# Altium footprint library PFC_Interleaved_V8.1.PcbLib: 67 footprints (part 2 of 5)
Each footprint in its own frame and in the unit in brackets; x right, y up, seen from the top. Pads: shape width x height; smd on the part's side, far side on the other; paste and mask are expansions set on the pad; w line width, h text height; cw(c..) or ccw(c..) is an arc to the next point about the centre after c.
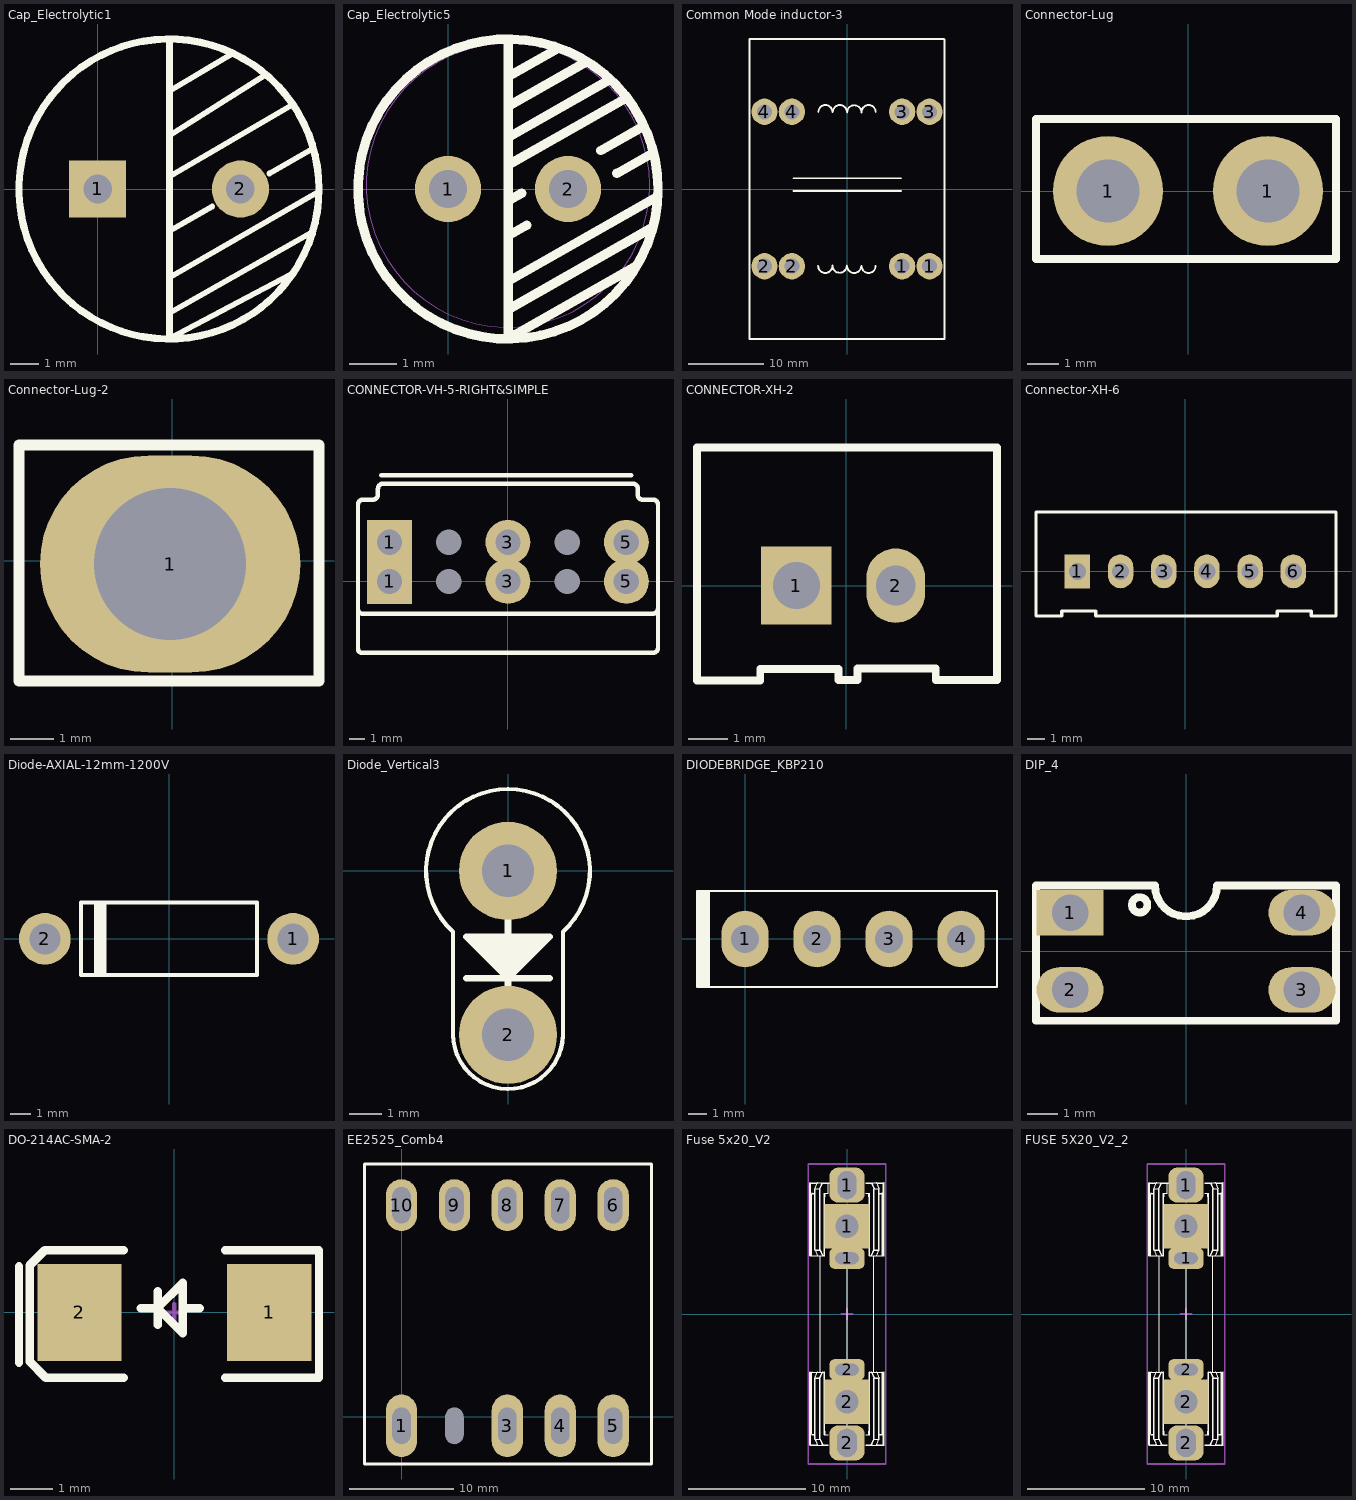
[diagram p1: the footprints below, top view; thin cyan lines are the x and y axes]

## Cap_Electrolytic1 [mm]
pads (2):
  rect 2x2 hole 1: 1(0,0)
  round 2 hole 1: 2(5,0)
Top Overlay:
  circle w0.254: c2.5,0 r5.25
  lines w0.2: 2.515,-5.232 6.756,-2.997 ; 2.515,-4.343 7.493,-1.524 ; 2.515,-3.099 7.722,-0.102 ; 2.515,-1.473 4.014,-0.61 ; 2.515,0.432 6.807,2.946 ; 2.515,1.88 5.867,3.988 ; 2.515,3.429 4.699,4.724 ; 6.012,0.54 7.544,1.422
  lines w0.254: 2.515,-5.232 2.515,5.156
Mechanical 1:
  circle w0.02: c2.5,0 r5.25
3D body: height 18, standoff 0, extent -2.634,-5.08 7.366,4.92
3D body: height 18.1, standoff 17.6, extent -1.775,-3.937 6.223,4.059
3D body: height 17, standoff 0, extent 7.227,-1.045 7.505,0.885

## Cap_Electrolytic5 [mm]
pads (2):
  round 1.4 hole 0.8: 1(0,0) 2(2.54,0)
Top Overlay:
  circle w0.2: c1.269,0 r3.175
  lines w0.2: 1.27,-3.152 1.27,3.127 ; 1.281,0.513 3.754,1.914 ; 1.285,2.384 2.327,2.975 ; 1.285,-1.945 4.435,-0.161 ; 1.287,1.101 3.422,2.311 ; 1.288,1.763 2.931,2.695 ; 1.289,-0.245 1.559,-0.092 ; 1.298,-2.533 4.3,-0.832 ; 1.298,-0.975 1.671,-0.764 ; 1.404,-3.09 3.955,-1.644 ; 3.234,0.815 4.14,1.328 ; 3.574,0.329 4.315,0.749
Mechanical 1:
  circle w0.02: c1.27,0.076 r3
3D body: height 11.5, standoff 0, extent 4.053,-0.842 4.331,1.089
3D body: height 12.1, standoff 11.6, extent -0.729,-1.924 3.269,2.074
3D body: height 12, standoff 0, extent -1.805,-2.873 4.192,3.121

## Common Mode inductor-3 [mm]
pads (8):
  round 3.5 hole 2: 1(7.35,-10.3) 1(11,-10.3) 2(-11,-10.3) 2(-7.35,-10.3) 3(7.35,10.3) 3(11,10.3) 4(-11,10.3) 4(-7.35,10.3)
Top Overlay:
  lines w0.254: -13,-20 13,-20 13,19.929 12.929,20 -13,20 -13,-19.99 ; -7.128,-0.267 7.223,-0.267 ; -7.128,1.435 7.223,1.435 ; -3.841,-10.249 ccw(c-2.891,-10.241) -1.941,-10.249 ; -3.831,10.248 cw(c-2.881,10.241) -1.931,10.249 ; -1.936,-10.224 ccw(c-0.986,-10.216) -0.036,-10.224 ; -1.901,10.248 cw(c-0.951,10.241) -0.001,10.249 ; -0.006,-10.249 ccw(c0.944,-10.241) 1.894,-10.249 ; 0.03,10.223 cw(c0.98,10.215) 1.93,10.223 ; 1.924,-10.249 ccw(c2.874,-10.241) 3.824,-10.249 ; 1.935,10.248 cw(c2.885,10.241) 3.835,10.249
3D body: height 40, standoff 0, extent -5.486,-19.939 5.766,19.964
3D body: height 35.99, standoff 14.01, extent -10.719,-13.848 11.281,14.152
3D body: height 1, standoff 0, extent -12.852,-19.939 13.208,19.876
3D body: height 37, standoff 13, extent -11.591,-13.568 12.396,-12.568
3D body: height 37, standoff 13, extent -11.591,-12.286 12.396,-11.286
3D body: height 37, standoff 13, extent -11.591,-11.003 12.396,-10.003
3D body: height 37, standoff 13, extent -11.591,-9.72 12.396,-8.72
3D body: height 37, standoff 13, extent -11.591,-8.437 12.396,-7.437
3D body: height 37, standoff 13, extent -11.616,-1.427 12.371,-0.427
3D body: height 37, standoff 13, extent -11.616,-2.71 12.371,-1.71
3D body: height 37, standoff 13, extent -11.616,-3.992 12.371,-2.992
3D body: height 37, standoff 13, extent -11.616,-5.275 12.371,-4.275
3D body: height 37, standoff 13, extent -11.616,-6.558 12.371,-5.558
3D body: height 37, standoff 13, extent -11.667,5.634 12.32,6.634
3D body: height 37, standoff 13, extent -11.667,4.351 12.32,5.351
3D body: height 37, standoff 13, extent -11.667,3.069 12.32,4.069
3D body: height 37, standoff 13, extent -11.667,1.786 12.32,2.786
3D body: height 37, standoff 13, extent -11.667,0.503 12.32,1.503
3D body: height 37, standoff 13, extent -11.667,12.492 12.32,13.492
3D body: height 37, standoff 13, extent -11.667,11.209 12.32,12.209
3D body: height 37, standoff 13, extent -11.667,9.927 12.32,10.927
3D body: height 37, standoff 13, extent -11.667,8.644 12.32,9.644
3D body: height 37, standoff 13, extent -11.667,7.361 12.32,8.361

## Connector-Lug [mm]
pads (2):
  round 3.5 hole 2: 1(-2.54,0) 1(2.54,0)
Top Overlay:
  lines w0.254: -4.826,-2.159 4.699,-2.159 4.699,2.286 -4.826,2.286 -4.826,-2.159
3D body "User Library-PCR250.STEP": height 13.1, standoff -3, extent -5.699,-1.475 5.801,1.525

## Connector-Lug-2 [mm]
pads (1):
  oval 6x5 hole 3.5: 1(-0.051,-0.076)
Top Overlay:
  lines w0.254: -3.531,-2.769 -3.531,2.667 3.378,2.667 3.378,-2.769 -3.531,-2.769

## CONNECTOR-VH-5-RIGHT&SIMPLE [mm]
pads (10):
  rect 3x3 hole 1.7: 1(-7.92,0) 1(-7.92,2.625)
  round 0 hole 1.7: 2(-3.96,0) 2(-3.96,2.625) 4(3.96,0) 4(3.96,2.625)
  round 3 hole 1.7: 3(0,0) 3(0,2.625) 5(7.92,0) 5(7.92,2.625)
Top Overlay:
  lines w0.3: -10.028,2.515 -10.028,-4.496 ccw(c-9.749,-4.496) -9.749,-4.775 -5.939,-4.775 9.688,-4.775 ccw(c9.688,-4.432) 10.031,-4.432 10.031,2.515 ; -8.458,7.112 8.235,7.112 ; 9.7,5.47 cw(c9.7,5.14) 10.031,5.14 10.031,-1.807 cw(c9.688,-1.807) 9.688,-2.15 -5.939,-2.15 -9.749,-2.15 cw(c-9.749,-1.871) -10.028,-1.871 -10.028,5.14 cw(c-9.698,5.14) -9.698,5.47 -9.038,5.47 ccw(c-9.038,5.813) -8.695,5.813 -8.695,6.194 cw(c-8.352,6.194) -8.352,6.537 8.341,6.537 cw(c8.341,6.194) 8.684,6.194 8.684,5.775 ccw(c8.989,5.775) 8.989,5.47 9.738,5.47
3D body "User Library-B2PS-VH.STEP": height 9.25, standoff -3.15, extent -1.95,-0.735 5.91,14.735
3D body "User Library-B2PS-VH.STEP": height 9.25, standoff -3.15, extent 2.01,-0.735 9.87,14.735
3D body "User Library-B2PS-VH.STEP": height 9.25, standoff -3.15, extent -5.91,-0.735 1.95,14.735
3D body "User Library-B2PS-VH.STEP": height 9.25, standoff -3.15, extent -9.87,-0.735 -2.01,14.735

## CONNECTOR-XH-2 [mm]
pads (2):
  rect 1.8x2 hole 1.2: 1(-1.27,0)
  oval 1.5x1.905 hole 1.016: 2(1.27,0)
Top Overlay:
  lines w0.2: -2.194,-2.426 -3.81,-2.426 -3.81,3.531 3.861,3.531 3.861,-2.413 2.295,-2.413 ; -2.194,-2.426 -2.194,-2.133 ; -2.194,-2.426 -2.194,-2.133 ; -2.194,-2.133 -1.194,-2.133 ; -2.194,-2.133 -1.194,-2.133 ; -1.194,-2.133 -0.194,-2.133 -0.194,-2.413 0.295,-2.413 0.295,-2.121 1.295,-2.121 ; 1.295,-2.121 2.295,-2.121 ; 1.295,-2.121 2.295,-2.121 ; 2.295,-2.413 2.295,-2.121 ; 2.295,-2.413 2.295,-2.121
3D body "JST 2pin.stp": height 6.85, standoff -3.45, extent -3.689,-2.311 3.74,3.416

## Connector-XH-6 [mm]
pads (6):
  rect 1.5x2 hole 1: 1(-6.35,0)
  oval 1.5x2 hole 1: 2(-3.81,0) 3(-1.27,0) 4(1.27,0) 5(3.81,0) 6(6.35,0)
Top Overlay:
  lines w0.2: -8.788,-2.616 -8.788,0.419 -8.788,3.492 8.865,3.492 8.865,-2.616 ; -8.712,-2.629 -7.274,-2.629 ; 5.417,-2.629 -5.274,-2.629 -5.274,-2.336 -6.274,-2.336 ; 5.417,-2.613 5.417,-2.337 6.417,-2.337 7.417,-2.337 7.417,-2.629 ; 7.439,-2.629 8.839,-2.629 ; -7.274,-2.629 -7.274,-2.336 ; -7.274,-2.629 -7.274,-2.336 ; -7.274,-2.336 -6.274,-2.336 ; -7.274,-2.336 -6.274,-2.336
3D body "User Library-JST - XH - Thru (V) - 6Pin - 2_54mm.STEP": height 7.21, standoff -3, extent -8.661,-2.489 8.712,3.353

## Diode-AXIAL-12mm-1200V [mm]
pads (2):
  round 2.5 hole 1.5: 1(6,0) 2(-6,0)
Top Overlay:
  rectangle: -3.632,-1.803 -3.012,1.784
  lines w0.2: -4.25,-1.75 -4.25,1.75 4.25,1.75 4.25,-1.75 -4.25,-1.75
3D body: height 3.65, standoff 0.15, extent -4.216,-1.754 4.284,1.746
3D body: height 3.68, standoff 0.12, extent -3.45,-1.783 -2.95,1.777
3D body: height 2.4, standoff 1.4, extent -6.452,-0.502 6.448,0.498
3D body: height 1.4, standoff 0, extent -6.5,-0.5 -5.5,0.5
3D body: height 1.4, standoff 0, extent 5.5,-0.5 6.5,0.5

## Diode_Vertical3 [mm]
pads (2):
  round 3 hole 1.6: 1(0,0) 2(0,-5)
Top Overlay:
  rectangle: -0.508,-2.769 0.508,-2.007
  rectangle: 0.508,-2.248 1.028,-2.007
  rectangle: 0.508,-2.376 0.901,-2.248
  rectangle: 0.508,-2.5 0.776,-2.376
  rectangle: -0.842,-2.5 0.508,-2.434
  rectangle: -0.856,-2.421 -0.254,-2.007
  rectangle: -1.052,-2.261 -0.842,-2.007
  rectangle: -0.635,-2.769 -0.508,-2.261
  rectangle: -0.381,-2.904 0.372,-2.642
  rectangle: -0.123,-3.019 0.258,-2.892
  rectangle: -0.381,-3.023 -0.127,-2.642
  rectangle: -0.127,-3.277 0.102,-2.896
  rectangle: 0.508,-2.633 0.643,-2.376
  rectangle: -0.842,-2.434 -0.635,-2.261
  rectangle: -0.98,-2.413 -0.842,-2.261
  rectangle: -0.108,-3.15 0.102,-2.896
  lines w0.127: -1.676,-5.08 -1.676,-1.88 ; -1.675,-4.978 ccw(c0,-4.978) 1.675,-5.017 ; -1.675,-1.856 cw(c0,0) 1.677,-1.854 1.676,-5.08 ; 0.102,-3.15 0.102,-2.896
  lines w0.2: -1.27,-3.277 1.27,-3.277 ; 0,-3.734 0,-3.277 ; 0,-1.346 0,-2.007 -0.762,-2.007 -1.27,-2.007 ; -1.27,-2.007 0,-3.277 ; -1.27,-2.007 1.27,-2.007 0,-3.277
3D body: height 10, standoff 0, extent -0.496,-5.499 0.5,-4.501
3D body: height 5.5, standoff 0.5, extent -2.497,-2.499 2.498,2.5
3D body: height 10.5, standoff 9.5, extent -0.381,-5.54 0.619,0.46
3D body: height 10, standoff 0, extent -0.496,-0.499 0.5,0.499

## DIODEBRIDGE_KBP210 [mm]
pads (4):
  oval 2.5x3 hole 1.5: 1(0,0) 2(3.81,0) 3(7.62,0) 4(11.43,0)
Top Overlay:
  rectangle: -2.538,-2.54 -1.903,2.54
  lines w0.127: -1.905,-2.54 13.335,-2.54 13.335,2.54 -1.905,2.54 ; -1.905,-2.54 -1.905,0 -1.905,2.54 ; -1.905,-2.54 -2.54,-2.54 -2.54,2.54 -1.905,2.54
3D body: height 6, standoff -1, extent 10.93,-0.496 11.93,0.497
3D body: height 6, standoff -1, extent 7.12,-0.496 8.12,0.497
3D body: height 6, standoff -1, extent 3.31,-0.496 4.31,0.496
3D body: height 6, standoff -1, extent -0.5,-0.496 0.5,0.496
3D body: height 20, standoff 5, extent -1.778,-2.413 13.335,2.54

## DIP_4 [mm]
pads (4):
  rect 2.2x1.5 hole 1.2: 1(-3.81,1.27)
  oval 2.2x1.5 hole 1.2: 2(-3.81,-1.27) 3(3.81,-1.27) 4(3.81,1.27)
Top Overlay:
  circle w0.254: c-1.524,1.524 r0.254
  lines w0.254: -4.928,-2.286 -4.928,2.159 -1.016,2.159 ccw(c0,2.159) 1.016,2.159 4.928,2.159 4.928,-2.286 -4.928,-2.286
3D body "User Library-DIP-4.STEP": height 5.3, standoff -2, extent -3.935,-2.413 3.935,2.167

## DO-214AC-SMA-2 [mm]
pads (2):
  rect 2x2.3 smd: 1(2.25,0) 2(-2.25,0)
Top Overlay:
  lines w0.2: -3.683,-1.194 -3.683,1.092 ; -1.2,-1.549 -3.048,-1.549 -3.429,-1.168 -3.429,1.118 -3.073,1.473 -1.2,1.473 ; -0.798,0.102 -0.398,0.102 ; -0.398,-0.298 -0.398,0.502 ; 0.202,0.102 0.602,0.102 ; 1.2,-1.549 3.429,-1.549 3.429,1.473 1.2,1.473 ; -0.398,0.102 0.202,0.702 0.202,-0.498 -0.398,0.102
Mechanical 1:
  lines w0.1: -0.2,0 0.2,0 ; 0,-0.2 0,0.2
3D body "User Library-DIOM5528X26.step": height 2.6, standoff 0.03, extent -2.725,-1.4 2.775,1.4

## EE2525_Comb4 [mm]
pads (10):
  oval 3x6 hole 1.75 slot 3.5 at 90 deg: 1(0,-0.864) 3(10.16,-0.864) 4(15.24,-0.864) 5(20.32,-0.864)
  round 0 hole 1.75 slot 3.5 at 90 deg unplated: 2(5.08,-0.864)
  oval 3x5 hole 1.75 slot 3.5 at 90 deg: 6(20.32,20.32) 7(15.24,20.32) 8(10.16,20.32) 9(5.08,20.32) 10(0,20.32)
Top Overlay:
  lines w0.3: -3.556,-4.528 24.003,-4.528 24.003,24.272 -3.556,24.272 -3.556,-4.528
3D body "070-2607_Download_STP_070-2607_rev1.STEP": height 19.71, standoff -3.51, extent -3.406,-4.128 24.094,23.872

## Fuse 5x20_V2 [mm]
pads (6):
  rrect50% 3x1.8 hole 1 slot 2 at 0 deg: 1(0,4.75) 2(0,-4.75)
  rect 3.81x3.81 hole 2: 1(0,7.5) 2(0,-7.5)
  rrect50% 3x3 hole 1.6 slot 2.4 at 90 deg: 1(0,11)
  rrect50% 3x3 hole 1.7 slot 2.4 at 90 deg: 2(0,-11)
Top Overlay:
  drawing of 355 lines, arcs and shapes, not listed
Mechanical 15:
  lines w0.15: -0.5,0 0.5,0 ; 0,-0.5 0,0.5 ; -3.3,-12.8 3.3,-12.8 3.3,12.8 -3.3,12.8 -3.3,-12.8
3D body "User Library-Clips FC-201 with fuse 5x20.STEP": height 8.63, standoff -3.56, extent -3.173,-11.689 3.174,11.689

## FUSE 5X20_V2_2 [mm]
pads (6):
  rrect50% 3x1.8 hole 1 slot 2 at 0 deg: 1(0,4.75) 2(0,-4.75)
  rect 3.81x3.81 hole 2: 1(0,7.5) 2(0,-7.5)
  rrect50% 3x3 hole 1.6 slot 2.4 at 90 deg: 1(0,11)
  rrect50% 3x3 hole 1.7 slot 2.4 at 90 deg: 2(0,-11)
Top Overlay:
  drawing of 355 lines, arcs and shapes, not listed
Mechanical 15:
  lines w0.15: -0.5,0 0.5,0 ; 0,-0.5 0,0.5 ; -3.3,-12.8 3.3,-12.8 3.3,12.8 -3.3,12.8 -3.3,-12.8
3D body "User Library-Clips FC-201 with fuse 5x20.STEP": height 8.63, standoff -3.56, extent -3.173,-11.689 3.174,11.689